# Altium footprint library 220k 2W res TH.PcbLib: 1 footprints
Each footprint in its own frame and in the unit in brackets; x right, y up, seen from the top. Pads: shape width x height; smd on the part's side, far side on the other; paste and mask are expansions set on the pad; w line width, h text height; cw(c..) or ccw(c..) is an arc to the next point about the centre after c.
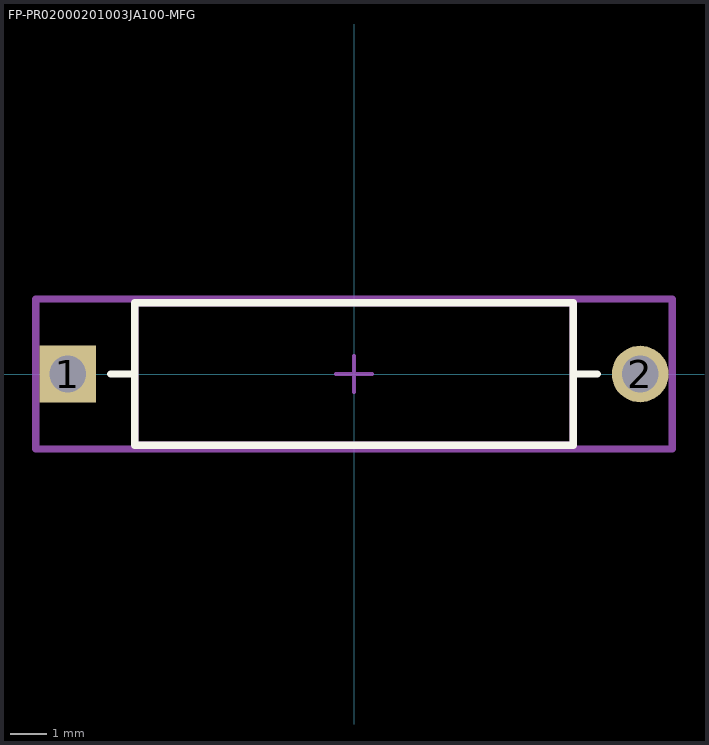
[diagram p0: the footprint, top view; thin cyan lines are the x and y axes]

## FP-PR02000201003JA100-MFG [mm]
pads (2):
  rect 1.55x1.55 hole 1 paste-2539.97 mask+0: 1(-7.83,0)
  round 1.55 hole 1 paste-2539.97 mask+0: 2(7.83,0)
Top Overlay:
  lines w0.2: -6.655,0 -6,0 ; 6,0 6.655,0 ; -6,-1.95 -6,1.95 6,1.95 6,-1.95 -6,-1.95
Top Assembly:
  lines w0.2: -8.705,-2.05 -8.705,2.05 8.705,2.05 8.705,-2.05 -8.705,-2.05
  text ".Designator" at 0,0.188 h1
Top 3D Body:
  lines w0.2: -6,-1.95 -6,1.95 6,1.95 6,-1.95 -6,-1.95
Top Courtyard:
  lines w0.2: -8.705,-2.05 -8.705,2.05 8.705,2.05 8.705,-2.05 -8.705,-2.05
Top Component Center:
  lines w0.1: -0.5,0 0.5,0 ; 0,-0.5 0,0.5
3D body "Res_Vishay_PR02000201003JA100_eec.STEP": height 0.25, standoff 0, extent -8.705,-2.05 8.705,2.05